# EAGLE library part USB_MINI_CONN (library walkgeek-eagle)
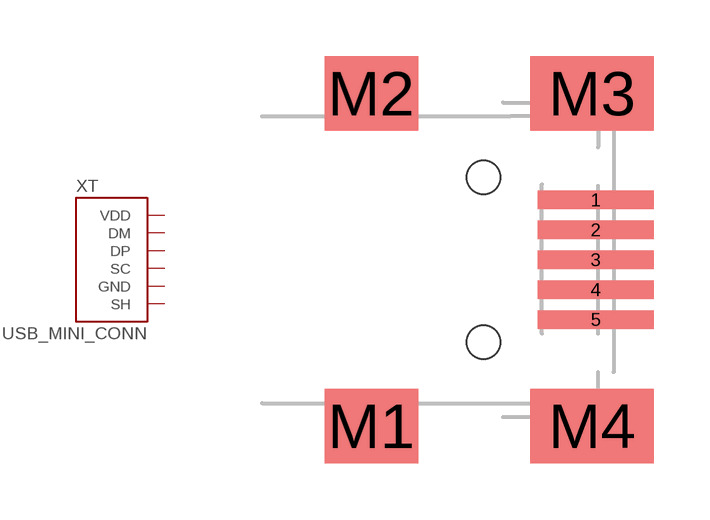
[diagram p5: symbol with the pads of 32005-201; footprint 32005-201]

Designator prefix XT

## USB_MINI_CONN  [32005-201]
1  VDD  pas
2  DM  pas
3  DP  pas
4  SC  pas
5  GND  pas
M1  SH  pas
M2  SH  pas
M3  SH  pas
M4  SH  pas

## Footprint 32005-201 (pad centres in mm)
MINI USB-B R/A SMT W/ REAR Source: http://www.cypressindustries.com/pdf/32005-201.pdf
smd 3.1 x 0.5: 1 3,1.6; 2 3,0.8; 3 3,0; 4 3,-0.8; 5 3,-1.6
smd 2.5 x 2: M1 -3,-4.45; M2 -3,4.45
smd 3.3 x 2: M3 2.9,4.45; M4 2.9,-4.45
hole 0.9 at 0,2.2
hole 0.9 at 0,-2.2